# Altium integrated library MCU.IntLib: 10 symbols
Pins are listed as number, name and electrical type; pins without a type are passive.

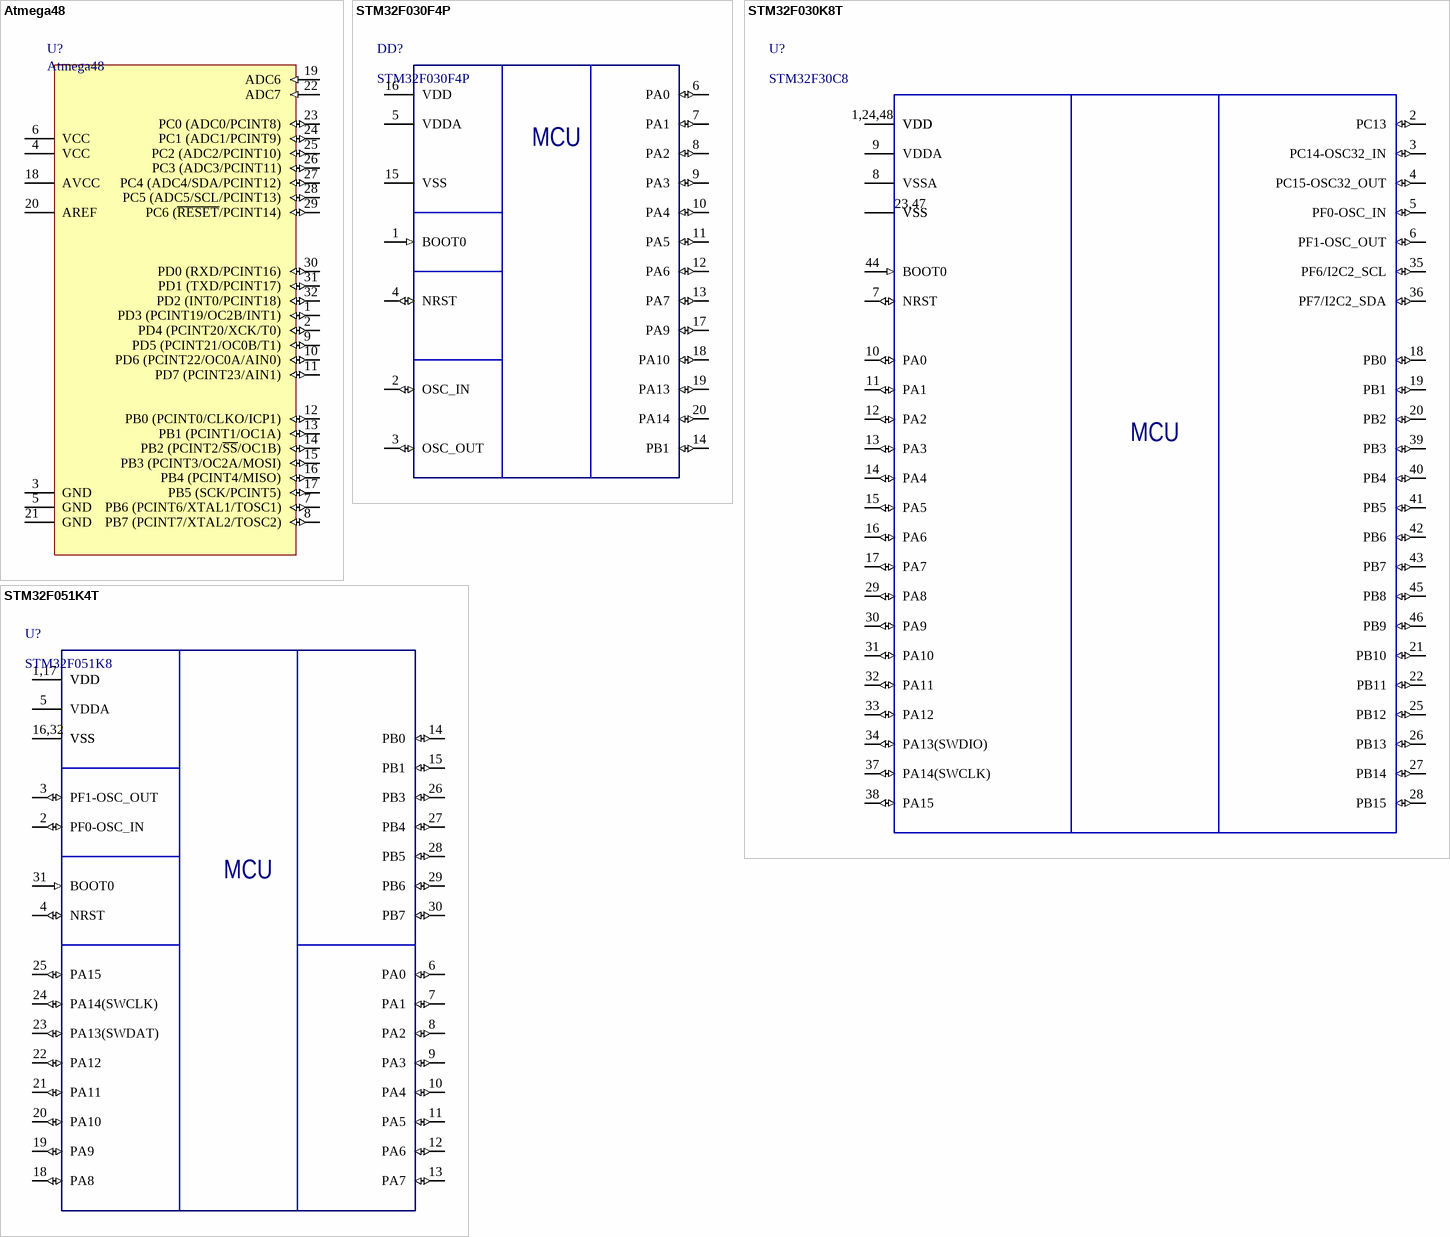
[diagram p0: symbols Atmega48 to STM32F051K4T]

## Atmega48
designator U?
ComponentDescription: Atmega48
footprint TQFP80P900X900X120-32N (TQFP, 32-Leads, Body 7,00x7,00mm, Pitch 0,80mm, IPC Medium Density)
pins: 1 PD3 (PCINT19/OC2B/INT1) (io), 2 PD4 (PCINT20/XCK/T0) (io), 3 GND (power), 4 VCC (power), 5 GND (power), 6 VCC (power), 7 PB6 (PCINT6/XTAL1/TOSC1) (io), 8 PB7 (PCINT7/XTAL2/TOSC2) (io), 9 PD5 (PCINT21/OC0B/T1) (io), 10 PD6 (PCINT22/OC0A/AIN0) (io), 11 PD7 (PCINT23/AIN1) (io), 12 PB0 (PCINT0/CLKO/ICP1) (io), 13 PB1 (PCINT1/OC1A) (io), 14 PB2 (PCINT2/~{SS}/OC1B) (io), 15 PB3 (PCINT3/OC2A/MOSI) (io), 16 PB4 (PCINT4/MISO) (io), 17 PB5 (SCK/PCINT5) (io), 18 AVCC (power), 19 ADC6 (in), 20 AREF, 21 GND (power), 22 ADC7 (in), 23 PC0 (ADC0/PCINT8) (io), 24 PC1 (ADC1/PCINT9) (io), 25 PC2 (ADC2/PCINT10) (io), 26 PC3 (ADC3/PCINT11) (io), 27 PC4 (ADC4/SDA/PCINT12) (io), 28 PC5 (ADC5/SCL/PCINT13) (io), 29 PC6 (~{RESET}/PCINT14) (io), 30 PD0 (RXD/PCINT16) (io), 31 PD1 (TXD/PCINT17) (io), 32 PD2 (INT0/PCINT18) (io)

## STM32F030F4P
designator DD?
ComponentDescription: STM32F030F4P
footprint SOP65P600X265-20N (SOP, 20-Leads, Body 6,50x4,40mm, Pitch 0,65mm, IPC Medium Density)
pins: 1 BOOT0 (in) "Boot memory selection", 2 OSC_IN (io) "PF0-OSC_IN(PF0)/OSC_IN", 3 OSC_OUT (io) "PF1-OSC_OUT(PF1)/OSC_OUT", 4 NRST (io) "Device reset input / internal reset output (active low)", 5 VDDA (power) "Analog power supply", 6 PA0 (io) "PA0/USART1_CTS/ADC_IN0,RTC_TAMP2,WKUP1", 7 PA1 (io) "PA1/USART1_RTS,EVENTOUT/ADC_IN1", 8 PA2 (io) "PA2/USART1_TX/ADC_IN2", 9 PA3 (io) "PA3/USART1_RX/ADC_IN3", 10 PA4 (io) "PA4/SPI1_NSS,USART1_CK,TIM14_CH1/ADC_IN4", 11 PA5 (io) "PA5/SPI1_SCK/ADC_IN5", 12 PA6 (io) "PA6/SPI1_MISO,TIM3_CH1,TIM1_BKIN,TIM16_CH1,EVENTOUT/ADC_IN6", 13 PA7 (io) "PA7/SPI1_MOSI,TIM3_CH2,TIM14_CH1,TIM1_CH1N,TIM17_CH1,EVENTOUT/ADC_IN7", 14 PB1 (io) "PB1/TIM3_CH4,TIM14_CH1,TIM1_CH3N/ADC_IN9", 15 VSS (power) "Ground", 16 VDD (power) "Digital power supply", 17 PA9 (io) "PA9/USART1_TX,TIM1_CH2,I2C1_SCL", 18 PA10 (io) "PA10/USART1_RX,TIM1_CH3,TIM17_BKIN,I2C1_SDA", 19 PA13 (io) "PA13(SWDIO)/IR_OUT,SWDIO", 20 PA14 (io) "PA14(SWCLK)/USART1_TX,SWCLK"
text: MCU

## STM32F030K8T
designator U?, comment STM32F30C8
ComponentDescription: STM32F30C8
footprint SQFP50P900X900X180-48N (SQFP, 48-Leads, Body 7,00x7,00mm, Pitch 0,50mm, IPC Medium Density)
pins: 1 VDD (power) "Digital power supply", 2 PC13 (io) "PC13/RTC_TAMP1,RTC_TS,RTC_OUT,WKUP2", 3 PC14-OSC32_IN (io) "PC14-OSC32_IN(PC14)/OSC32_IN", 4 PC15-OSC32_OUT (io) "PC15-OSC32_OUT(PC15)/OSC32_OUT", 5 PF0-OSC_IN (io) "PF0-OSC_IN(PF0)/OSC_IN", 6 PF1-OSC_OUT (io) "PF1-OSC_OUT(PF1)/OSC_OUT", 7 NRST (io) "Device reset input / internal reset output (active low)", 8 VSSA (power) "Analog ground", 9 VDDA (power) "Analog power supply", 10 PA0 (io) "PA0/USART2_CTS/ADC_IN0,RTC_TAMP2,WKUP1", 11 PA1 (io) "PA1/USART2_RTS,EVENTOUT/ADC_IN1", 12 PA2 (io) "PA2/USART2_TX,TIM15_CH1/ADC_IN2", 13 PA3 (io) "PA3/USART2_RX,TIM15_CH2/ADC_IN3", 14 PA4 (io) "PA4/SPI1_NSS/USART2_CK,TIM14_CH1/ADC_IN4", 15 PA5 (io) "PA5/SPI1_SCK/ADC_IN5", 16 PA6 (io) "PA6/SPI1_MISO,TIM3_CH1,TIM1_BKIN,TIM16_CH1,EVENTOUT/ADC_IN6", 17 PA7 (io) "PA7/SPI1_MOSI,TIM3_CH2,TIM14_CH1,TIM1_CH1N,TIM17_CH1,EVENTOUT/ADC_IN7", 18 PB0 (io) "PB0/TIM3_CH3,TIM1_CH2N,EVENTOUT/ADC_IN8", 19 PB1 (io) "PB1/TIM3_CH4,TIM14_CH1,TIM1_CH3N/ADC_IN9", 20 PB2 (io), 21 PB10 (io) "PB10/I2C2_SCL", 22 PB11 (io) "PB11/I2C2_SDA,EVENTOUT", 23 VSS (power) "Ground", 24 VDD (power) "Digital power supply", 25 PB12 (io) "PB12/SPI2_NSS,TIM1_BKIN,EVENTOUT", 26 PB13 (io) "PB13/SPI2_SCK,TIM1_CH1N", 27 PB14 (io) "PB14/SPI2_MISO,TIM1_CH2N,TIM15_CH1", 28 PB15 (io) "PB15/SPI2_MOSI,TIM1_CH3N,TIM15_CH1N,TIM15_CH2/RTC_REFIN", 29 PA8 (io) "PA8/USART1_CK,TIM1_CH1,EVENTOUT,MCO", 30 PA9 (io) "PA9/USART1_TX,TIM1_CH2,TIM15_BKIN", 31 PA10 (io) "PA10/USART1_RX,TIM1_CH3,TIM17_BKIN", 32 PA11 (io) "PA11/USART1_CTS,TIM1_CH4,EVENTOUT", 33 PA12 (io) "PA12/USART1_RTS,TIM1_ETR,EVENTOUT", 34 PA13(SWDIO) (io) "PA13(SWDIO)/IR_OUT,SWDIO", 35 PF6/I2C2_SCL (io), 36 PF7/I2C2_SDA (io), 37 PA14(SWCLK) (io) "PA14(SWCLK)/USART2_TX,SWCLK", 38 PA15 (io) "PA15/SPI1_NSS,USART2_RX,EVENTOUT", 39 PB3 (io) "PB3/SPI1_SCK,EVENTOUT", 40 PB4 (io) "PB4/SPI1_MISO,TIM3_CH1,EVENTOUT", 41 PB5 (io) "PB5/SPI1_MOSI,I2C1_SMBA,TIM16_BKIN,TIM3_CH2", 42 PB6 (io) "PB6/I2C1_SCL,USART1_TX,TIM16_CH1N", 43 PB7 (io) "PB7/I2C1_SDA,USART1_RX,TIM17_CH1N", 44 BOOT0 (in) "Boot memory selection", 45 PB8 (io) "PB8/I2C1_SCL,TIM16_CH1", 46 PB9 (io) "PB9/I2C1_SDA,IR_OUT,TIM17_CH1,EVENTOUT", 47 VSS (power) "Ground", 48 VDD (power) "Digital power supply"
text: 1,24,48; 23,47; MCU

## STM32F051K4T
designator U?, comment STM32F051K8
ComponentDescription: STM32F051K8
footprint LQFP32 (LQFP, 32-Leads, Body 7,00x7,00mm, Pitch 0,80mm, IPC Medium Density)
pins: 1 VDD (power) "Digital power supply", 2 PF0-OSC_IN (io) "PF0-OSC_IN(PF0)/OSC_IN", 3 PF1-OSC_OUT (io) "PF1-OSC_OUT(PF1)/OSC_OUT", 4 NRST (io) "Device reset input / internal reset output (active low)", 5 VDDA (power) "Analog power supply", 6 PA0 (io) "PA0/USART2_CTS,TIM2_CH1_ETR,COMP1_OUT,TSC_G1_IO1/ADC_IN0,COMP1_INM6,RTC_TAMP2,WKUP1", 7 PA1 (io) "PA1/USART2_RTS,TIM2_CH2,TSC_G1_IO2,EVENTOUT/ADC_IN1,COMP1_INP", 8 PA2 (io) "PA2/USART2_TX,TIM2_CH3,TIM15_CH1,COMP2_OUT,TSC_G1_IO3/ADC_IN2,COMP2_INM6", 9 PA3 (io) "PA3/USART2_RX,TIM2_CH4,TIM15_CH2,TSC_G1_IO4/ADC_IN3,COMP2_INP", 10 PA4 (io) "PA4/SPI1_NSS/I2S1_WS,USART2_CK,TIM14_CH1,TSC_G2_IO1/ADC_IN4,COMP1_INM4,COMP2_INM4,DAC1_OUT", 11 PA5 (io) "PA5/SPI1_SCK/I2S1_CK,CEC,TIM2_CH1_ETR,TSC_G2_IO2/ADC_IN5,COMP1_INM5,COMP2_INM5", 12 PA6 (io) "PA6/SPI1_MISO/I2S1_MCK,TIM3_CH1,TIM1_BKIN,TIM16_CH1,COMP1_OUT,TSC_G2_IO3,EVENTOUT/ADC_IN6", 13 PA7 (io) "PA7/SPI1_MOSI/I2S1_SD,TIM3_CH2,TIM14_CH1,TIM1_CH1N,TIM17_CH1,COMP2_OUT,TSC_G2_IO4,EVENTOUT/ADC_IN7", 14 PB0 (io) "PB0/TIM3_CH3,TIM1_CH2N,TSC_G3_IO2,EVENTOUT/ADC_IN8", 15 PB1 (io) "PB1/TIM3_CH4,TIM14_CH1,TIM1_CH3N,TSC_G3_IO3/ADC_IN9", 16 VSS (power) "Ground", 17 VDD (power) "Digital power supply", 18 PA8 (io) "PA8/USART1_CK,TIM1_CH1,EVENTOUT,MCO", 19 PA9 (io) "PA9/USART1_TX,TIM1_CH2,TIM15_BKIN,TSC_G4_IO1", 20 PA10 (io) "PA10/USART1_RX,TIM1_CH3,TIM17_BKIN,TSC_G4_IO2", 21 PA11 (io) "PA11/USART1_CTS,TIM1_CH4,COMP1_OUT,TSC_G4_IO3,EVENTOUT", 22 PA12 (io) "PA12/USART1_RTS,TIM1_ETR,COMP2_OUT,TSC_G4_IO4,EVENTOUT", 23 PA13(SWDAT) (io) "PA13(SWDAT)/IR_OUT,SWDAT", 24 PA14(SWCLK) (io) "PA14(SWCLK)/USART2_TX,SWCLK", 25 PA15 (io) "PA15/SPI1_NSS/I2S1_WS,USART2_RX,TIM2_CH1_ETR,EVENTOUT", 26 PB3 (io) "PB3/SPI1_SCK/I2S1_CK,TIM2_CH2,TSC_G5_IO1,EVENTOUT", 27 PB4 (io) "PB4/SPI1_MISO/I2S1_MCK,TIM3_CH1,TSC_G5_IO2,EVENTOUT", 28 PB5 (io) "PB5/SPI1_MOSI,I2S1_SD,I2C1_SMBA,TIM16_BKIN,TIM3_CH2", 29 PB6 (io) "PB6/I2C1_SCL,USART1_TX,TIM16_CH1N,TSC_G5_IO3", 30 PB7 (io) "PB7/I2C1_SDA,USART1_RX,TIM17_CH1N,TSC_G5_IO4", 31 BOOT0 (in) "Boot memory selection", 32 VSS (power) "Ground"
text: 1,17; 16,32; MCU

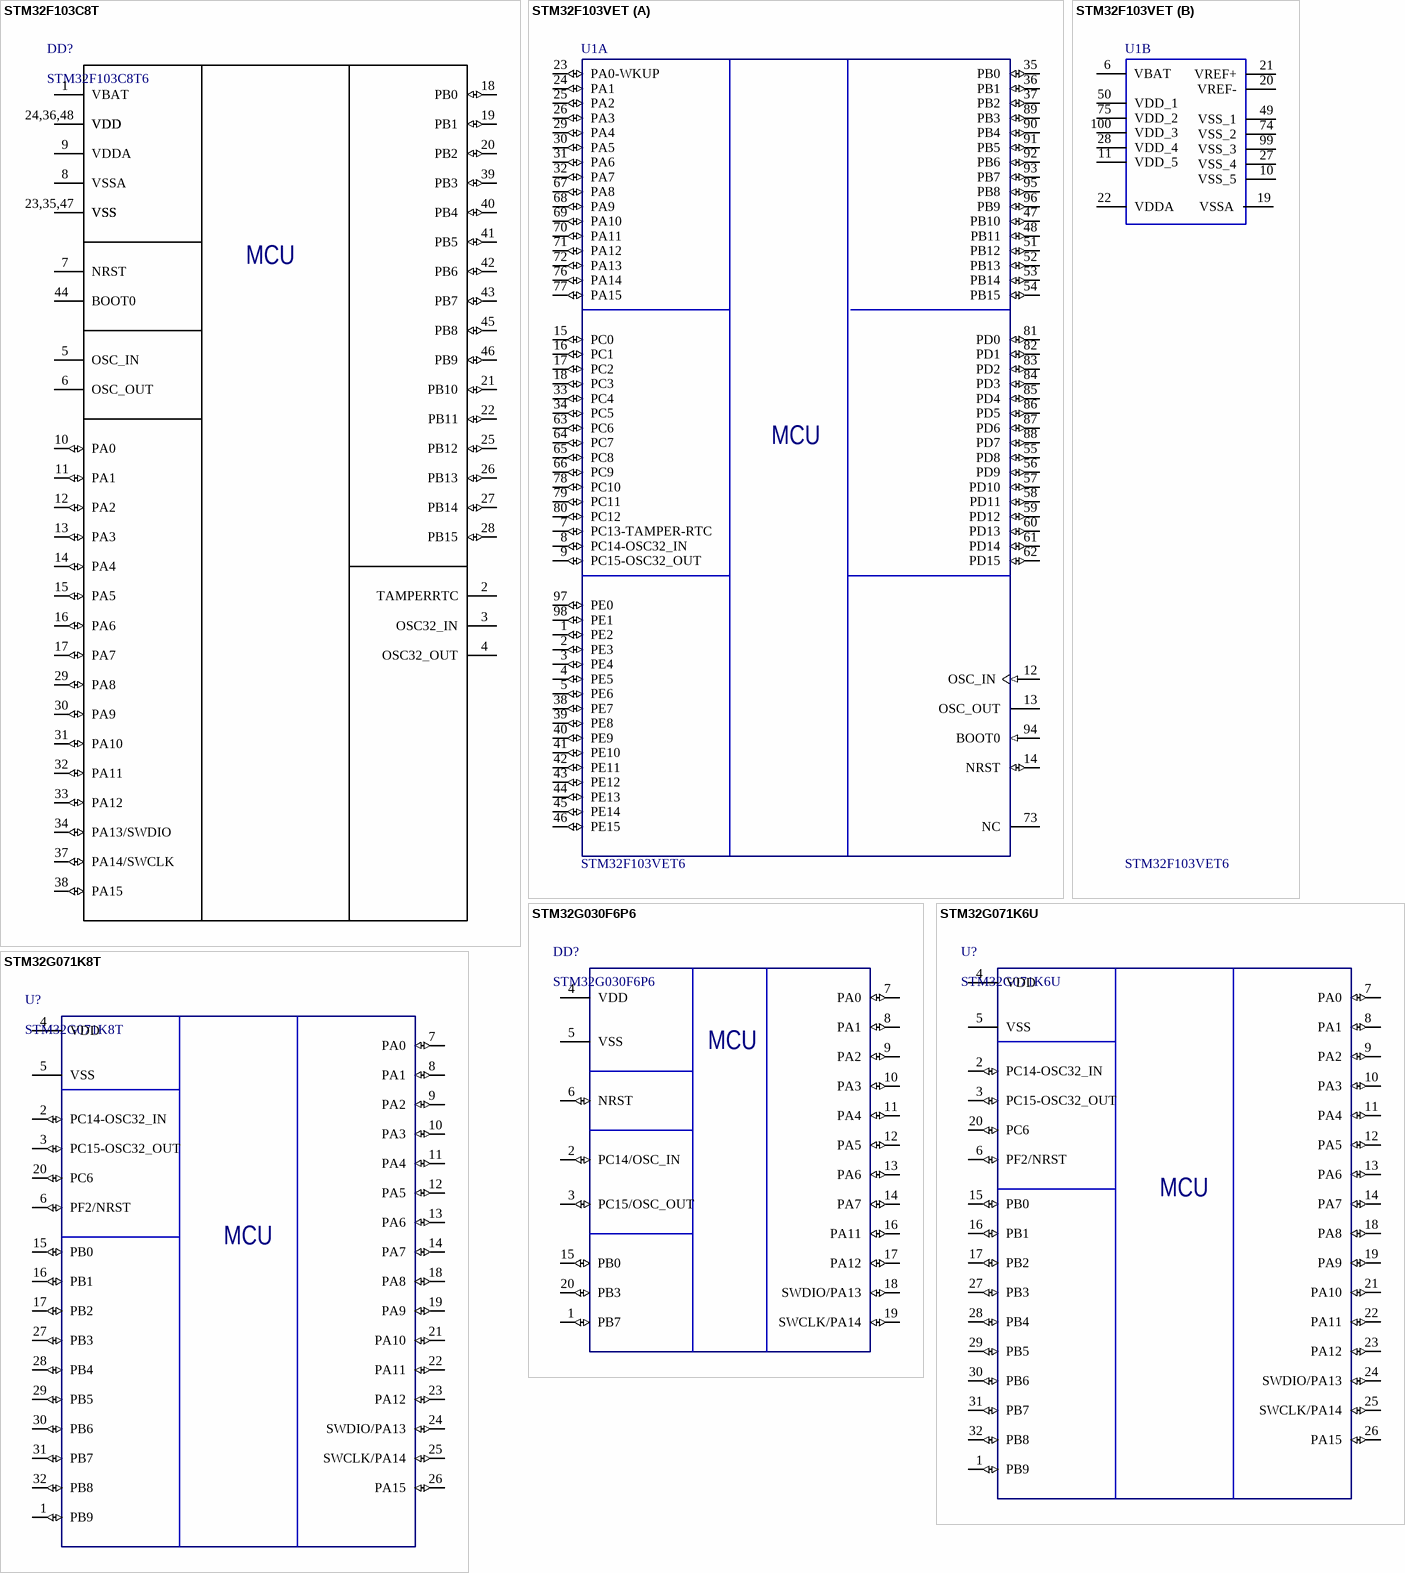
[diagram p1: symbols STM32F103C8T to STM32G071K8T]

## STM32F103C8T
designator DD?, comment STM32F103C8T6
footprint SQFP50P900X900X180-48N (SQFP, 48-Leads, Body 7,00x7,00mm, Pitch 0,50mm, IPC Medium Density)
pins: 1 VBAT, 2 TAMPERRTC, 3 OSC32_IN, 4 OSC32_OUT, 5 OSC_IN, 6 OSC_OUT, 7 NRST, 8 VSSA, 9 VDDA, 10 PA0 (io), 11 PA1 (io), 12 PA2 (io), 13 PA3 (io), 14 PA4 (io), 15 PA5 (io), 16 PA6 (io), 17 PA7 (io), 18 PB0 (io), 19 PB1 (io), 20 PB2 (io), 21 PB10 (io), 22 PB11 (io), 23 VSS (power), 24 VDD, 25 PB12 (io), 26 PB13 (io), 27 PB14 (io), 28 PB15 (io), 29 PA8 (io), 30 PA9 (io), 31 PA10 (io), 32 PA11 (io), 33 PA12 (io), 34 PA13/SWDIO (io), 35 VSS (power), 36 VDD, 37 PA14/SWCLK (io), 38 PA15 (io), 39 PB3 (io), 40 PB4 (io), 41 PB5 (io), 42 PB6 (io), 43 PB7 (io), 44 BOOT0, 45 PB8 (io), 46 PB9 (io), 47 VSS (power), 48 VDD
text: 24,36,48; 23,35,47; MCU

## STM32F103VET
designator U1, comment STM32F103VET6
ARM Cortex-M3 32-bit MCU, 512 KB Flash, 64 KB Internal RAM, 80 I/Os, 100-pin LQFP, -40 to 85 degC, Tray; ComponentDescription: STM32F103VET6
footprint LQFP100
part A pins: 1 PE2 (io) "PE2/TRACECK/FSMC_A23", 2 PE3 (io) "PE3/TRACED0/FSMC_A19", 3 PE4 (io) "PE4/TRACED1/FSMC_A20", 4 PE5 (io) "PE5/TRACED2/FSMC_A21", 5 PE6 (io) "PE6/TRACED3/FSMC_A22", 7 PC13-TAMPER-RTC (io) "PC13-TAMPER-RTC/PC13/TAMPER-RTC", 8 PC14-OSC32_IN (io) "PC14-OSC32_IN/PC14/OSC32_IN", 9 PC15-OSC32_OUT (io) "PC15-OSC32_OUT/PC15/OSC32_OUT", 12 OSC_IN (in), 13 OSC_OUT, 14 NRST (io), 15 PC0 (io) "PC0/ADC123_IN10", 16 PC1 (io) "PC1/ADC123_IN11", 17 PC2 (io) "PC2/ADC123_IN12", 18 PC3 (io) "PC3/ADC123_IN13", 23 PA0-WKUP (io) "PA0-WKUP/PA0/WKUP/USART2_CTS/ADC123_IN0/TIM2_CH1_ETR/TIM5_CH1/TIM8_ETR", 24 PA1 (io) "PA1/USART2_RTS/ADC123_IN1/TIM5_CH2/TIM2_CH2", 25 PA2 (io) "PA2/USART2_TX/TIM5_CH3/ADC123_IN2/TIM2_CH3", 26 PA3 (io) "PA3/USART2_RX/TIM5_CH4/ADC123_IN3/TIM2_CH4", 29 PA4 (io) "PA4/SPI1_NSS/USART2_CK/DAC_OUT1/ADC12_IN4", 30 PA5 (io) "PA5/SPI1_SCK/DAC_OUT2/ADC12_IN5", 31 PA6 (io) "PA6/SPI1_MISO/TIM8_BKIN/ADC12_IN6/TIM3_CH1/TIM1_BKIN", 32 PA7 (io) "PA7/SPI1_MOSI/TIM8_CH1N/ADC12_IN7/TIM3_CH2/TIM1_CH1N", 33 PC4 (io) "PC4/ADC12_IN14", 34 PC5 (io) "PC5/ADC12_IN15", 35 PB0 (io) "PB0/ADC12_IN8/TIM3_CH3/TIM8_CH2N/TIM1_CH2N", 36 PB1 (io) "PB1/ADC12_IN9/TIM3_CH4/TIM8_CH3N/TIM1_CH3N", 37 PB2 (io) "PB2/BOOT1", 38 PE7 (io) "PE7/FSMC_D4/TIM1_ETR", 39 PE8 (io) "PE8/FSMC_D5/TIM1_CH1N", 40 PE9 (io) "PE9/FSMC_D6/TIM1_CH1", 41 PE10 (io) "PE10/FSMC_D7/TIM1_CH2N", 42 PE11 (io) "PE11/FSMC_D8/TIM1_CH2", 43 PE12 (io) "PE12/FSMC_D9/TIM1_CH3N", 44 PE13 (io) "PE13/FSMC_D10/TIM1_CH3", 45 PE14 (io) "PE14/FSMC_D11/TIM1_CH4", 46 PE15 (io) "PE15/FSMC_D12/TIM1_BKIN", 47 PB10 (io) "PB10/I2C2_SCL/USART3_TX/TIM2_CH3", 48 PB11 (io) "PB11/I2C2_SDA/USART3_RX/TIM2_CH4", 51 PB12 (io) "PB12/SPI2_NSS/I2S2_WS/I2C2_SMBA/USART3_CK/TIM1_BKIN", 52 PB13 (io) "PB13/SPI2_SCK/I2S2_CK/USART3_CTS/TIM1_CH1N", 53 PB14 (io) "PB14/SPI2_MISO/TIM1_CH2N/USART3_RTS", 54 PB15 (io) "PB15/SPI2_MOSI/I2S2_SD/TIM1_CH3N", 55 PD8 (io) "PD8/FSMC_D13/USART3_TX", 56 PD9 (io) "PD9/FSMC_D14/USART3_RX", 57 PD10 (io) "PD10/FSMC_D15/USART3_CK", 58 PD11 (io) "PD11/FSMC_A16/USART3_CTS", 59 PD12 (io) "PD12/FSMC_A17/TIM4_CH1/USART3_RTS", 60 PD13 (io) "PD13/FSMC_A18/TIM4_CH2", 61 PD14 (io) "PD14/FSMC_D0/TIM4_CH3", 62 PD15 (io) "PD15/FSMC_D1/TIM4_CH4", 63 PC6 (io) "PC6/I2S2_MCK/TIM8_CH1/SDIO_D6/TIM3_CH1", 64 PC7 (io) "PC7/I2S3_MCK/TIM8_CH2/SDIO_D7/TIM3_CH2", 65 PC8 (io) "PC8/TIM8_CH3/SDIO_D0/TIM3_CH3", 66 PC9 (io) "PC9/TIM8_CH4/SDIO_D1/TIM3_CH4", 67 PA8 (io) "PA8/USART1_CK/TIM1_CH1/MCO", 68 PA9 (io) "PA9/USART1_TX/TIM1_CH2", 69 PA10 (io) "PA10/USART1_RX/TIM1_CH3", 70 PA11 (io) "PA11/USART1_CTS/USBDM/CAN_RX/TIM1_CH4", 71 PA12 (io) "PA12/USART1_RTS/USBDP/CAN_TX/TIM1_ETR", 72 PA13 (io) "PA13/JTMS-SWDIO", 73 NC, 76 PA14 (io) "PA14/JTCK-SWCLK", 77 PA15 (io) "PA15/JTDI/SPI3_NSS/I2S3_WS/TIM2_CH1_ETR/SPI1_NSS", 78 PC10 (io) "PC10/UART4_TX/SDIO_D2/USART3_TX", 79 PC11 (io) "PC11/UART4_RX/SDIO_D3/USART3_RX", 80 PC12 (io) "PC12/UART5_TX/SDIO_CK/USART3_CK", 81 PD0 (io) "PD0/OSC_IN/FSMC_D2/CAN_RX", 82 PD1 (io) "PD1/OSC_OUT/FSMC_D3/CAN_TX", 83 PD2 (io) "PD2/TIM3_ETR/UART5_RX/SDIO_CMD", 84 PD3 (io) "PD3/FSMC_CLK/USART2_CTS", 85 PD4 (io) "PD4/FSMC_NOE/USART2_RTS", 86 PD5 (io) "PD5/FSMC_NWE/USART2_TX", 87 PD6 (io) "PD6/FSMC_NWAIT/USART2_RX", 88 PD7 (io) "PD7/FSMC_NE1/FSMC_NCE2/USART2_CK", 89 PB3 (io) "PB3/JTDO/SPI3_SCK/I2S3_CK/TRACESWO/TIM2_CH2/SPI1_SCK", 90 PB4 (io) "PB4/NJTRST/SPI3_MISO/TIM3_CH1/SPI1_MISO", 91 PB5 (io) "PB5/I2C1_SMBA/SPI3_MOSI/I2S3_SD/TIM3_CH2/SPI1_MOSI", 92 PB6 (io) "PB6/I2C1_SCL/TIM4_CH1/USART1_TX", 93 PB7 (io) "PB7/I2C1_SDA/FSMC_NADV/TIM4_CH2/USART1_RX", 94 BOOT0 (in), 95 PB8 (io) "PB8/TIM4_CH3/SDIO_D4/I2C1_SCL/CAN_RX", 96 PB9 (io) "PB9/TIM4_CH4/SDIO_D5/I2C1_SDA/CAN_TX", 97 PE0 (io) "PE0/TIM4_ETR/FSMC_NBL0", 98 PE1 (io) "PE1/FSMC_NBL1"
part B pins: 6 VBAT, 10 VSS_5 (power), 11 VDD_5 (power), 19 VSSA (power), 20 VREF- (power), 21 VREF+ (power), 22 VDDA (power), 27 VSS_4 (power), 28 VDD_4 (power), 49 VSS_1 (power), 50 VDD_1 (power), 74 VSS_2 (power), 75 VDD_2 (power), 99 VSS_3 (power), 100 VDD_3 (power)
part A text: MCU

## STM32G030F6P6
designator DD?
ComponentDescription: STM32G030F6P6
footprint SOP65P600X265-20N (SOP, 20-Leads, Body 6,50x4,40mm, Pitch 0,65mm, IPC Medium Density)
pins: 1 PB7 (io), 2 PC14/OSC_IN (io), 3 PC15/OSC_OUT (io), 4 VDD (power) "Digital power supply", 5 VSS (power) "Ground", 6 NRST (io) "Device reset input / internal reset output (active low)", 7 PA0 (io), 8 PA1 (io), 9 PA2 (io), 10 PA3 (io), 11 PA4 (io), 12 PA5 (io), 13 PA6 (io), 14 PA7 (io), 15 PB0 (io), 16 PA11 (io), 17 PA12 (io), 18 SWDIO/PA13 (io), 19 SWCLK/PA14 (io), 20 PB3 (io)
text: MCU

## STM32G071K6U
designator U?
ComponentDescription: STM32G071K6U
footprint PQFN50P500X500X60_HS-33N (PQFN, 32-Leads, Body 5,00x5,00mm, Pitch 0,50mm, Thermal Pad 3,50x3,50mm, IPC Medium Density)
pins: 1 PB9 (io) "PB7/I2C1_SDA,USART1_RX,TIM17_CH1N,TSC_G5_IO4", 2 PС14-OSC32_IN (io) "PF0-OSC_IN(PF0)/OSC_IN", 3 PС15-OSC32_OUT (io) "PF1-OSC_OUT(PF1)/OSC_OUT", 4 VDD (power) "Digital power supply", 5 VSS (power) "Analog power supply", 6 PF2/NRST (io) "Device reset input / internal reset output (active low)", 7 PA0 (io) "PA0/USART2_CTS,TIM2_CH1_ETR,COMP1_OUT,TSC_G1_IO1/ADC_IN0,COMP1_INM6,RTC_TAMP2,WKUP1", 8 PA1 (io) "PA1/USART2_RTS,TIM2_CH2,TSC_G1_IO2,EVENTOUT/ADC_IN1,COMP1_INP", 9 PA2 (io) "PA2/USART2_TX,TIM2_CH3,TIM15_CH1,COMP2_OUT,TSC_G1_IO3/ADC_IN2,COMP2_INM6", 10 PA3 (io) "PA3/USART2_RX,TIM2_CH4,TIM15_CH2,TSC_G1_IO4/ADC_IN3,COMP2_INP", 11 PA4 (io) "PA4/SPI1_NSS/I2S1_WS,USART2_CK,TIM14_CH1,TSC_G2_IO1/ADC_IN4,COMP1_INM4,COMP2_INM4,DAC1_OUT", 12 PA5 (io) "PA5/SPI1_SCK/I2S1_CK,CEC,TIM2_CH1_ETR,TSC_G2_IO2/ADC_IN5,COMP1_INM5,COMP2_INM5", 13 PA6 (io) "PA6/SPI1_MISO/I2S1_MCK,TIM3_CH1,TIM1_BKIN,TIM16_CH1,COMP1_OUT,TSC_G2_IO3,EVENTOUT/ADC_IN6", 14 PA7 (io) "PA7/SPI1_MOSI/I2S1_SD,TIM3_CH2,TIM14_CH1,TIM1_CH1N,TIM17_CH1,COMP2_OUT,TSC_G2_IO4,EVENTOUT/ADC_IN7", 15 PB0 (io) "PB0/TIM3_CH3,TIM1_CH2N,TSC_G3_IO2,EVENTOUT/ADC_IN8", 16 PB1 (io) "PB1/TIM3_CH4,TIM14_CH1,TIM1_CH3N,TSC_G3_IO3/ADC_IN9", 17 PB2 (io) "PB1/TIM3_CH4,TIM14_CH1,TIM1_CH3N,TSC_G3_IO3/ADC_IN9", 18 PA8 (io) "PA7/SPI1_MOSI/I2S1_SD,TIM3_CH2,TIM14_CH1,TIM1_CH1N,TIM17_CH1,COMP2_OUT,TSC_G2_IO4,EVENTOUT/ADC_IN7", 19 PA9 (io) "PA7/SPI1_MOSI/I2S1_SD,TIM3_CH2,TIM14_CH1,TIM1_CH1N,TIM17_CH1,COMP2_OUT,TSC_G2_IO4,EVENTOUT/ADC_IN7", 20 PС6 (io), 21 PA10 (io) "PA6/SPI1_MISO/I2S1_MCK,TIM3_CH1,TIM1_BKIN,TIM16_CH1,COMP1_OUT,TSC_G2_IO3,EVENTOUT/ADC_IN6", 22 PA11 (io) "PA7/SPI1_MOSI/I2S1_SD,TIM3_CH2,TIM14_CH1,TIM1_CH1N,TIM17_CH1,COMP2_OUT,TSC_G2_IO4,EVENTOUT/ADC_IN7", 23 PA12 (io) "PA7/SPI1_MOSI/I2S1_SD,TIM3_CH2,TIM14_CH1,TIM1_CH1N,TIM17_CH1,COMP2_OUT,TSC_G2_IO4,EVENTOUT/ADC_IN7", 24 SWDIO/PA13 (io) "PA7/SPI1_MOSI/I2S1_SD,TIM3_CH2,TIM14_CH1,TIM1_CH1N,TIM17_CH1,COMP2_OUT,TSC_G2_IO4,EVENTOUT/ADC_IN7", 25 SWCLK/PA14 (io) "PA6/SPI1_MISO/I2S1_MCK,TIM3_CH1,TIM1_BKIN,TIM16_CH1,COMP1_OUT,TSC_G2_IO3,EVENTOUT/ADC_IN6", 26 PA15 (io) "PA7/SPI1_MOSI/I2S1_SD,TIM3_CH2,TIM14_CH1,TIM1_CH1N,TIM17_CH1,COMP2_OUT,TSC_G2_IO4,EVENTOUT/ADC_IN7", 27 PB3 (io) "PB3/SPI1_SCK/I2S1_CK,TIM2_CH2,TSC_G5_IO1,EVENTOUT", 28 PB4 (io) "PB4/SPI1_MISO/I2S1_MCK,TIM3_CH1,TSC_G5_IO2,EVENTOUT", 29 PB5 (io) "PB5/SPI1_MOSI,I2S1_SD,I2C1_SMBA,TIM16_BKIN,TIM3_CH2", 30 PB6 (io) "PB6/I2C1_SCL,USART1_TX,TIM16_CH1N,TSC_G5_IO3", 31 PB7 (io) "PB7/I2C1_SDA,USART1_RX,TIM17_CH1N,TSC_G5_IO4", 32 PB8 (io) "PB7/I2C1_SDA,USART1_RX,TIM17_CH1N,TSC_G5_IO4"
text: MCU

## STM32G071K8T
designator U?
ComponentDescription: STM32G071K8T
footprint LQFP32 (LQFP, 32-Leads, Body 7,00x7,00mm, Pitch 0,80mm, IPC Medium Density)
pins: 1 PB9 (io) "PB7/I2C1_SDA,USART1_RX,TIM17_CH1N,TSC_G5_IO4", 2 PС14-OSC32_IN (io) "PF0-OSC_IN(PF0)/OSC_IN", 3 PС15-OSC32_OUT (io) "PF1-OSC_OUT(PF1)/OSC_OUT", 4 VDD (power) "Digital power supply", 5 VSS (power) "Analog power supply", 6 PF2/NRST (io) "Device reset input / internal reset output (active low)", 7 PA0 (io) "PA0/USART2_CTS,TIM2_CH1_ETR,COMP1_OUT,TSC_G1_IO1/ADC_IN0,COMP1_INM6,RTC_TAMP2,WKUP1", 8 PA1 (io) "PA1/USART2_RTS,TIM2_CH2,TSC_G1_IO2,EVENTOUT/ADC_IN1,COMP1_INP", 9 PA2 (io) "PA2/USART2_TX,TIM2_CH3,TIM15_CH1,COMP2_OUT,TSC_G1_IO3/ADC_IN2,COMP2_INM6", 10 PA3 (io) "PA3/USART2_RX,TIM2_CH4,TIM15_CH2,TSC_G1_IO4/ADC_IN3,COMP2_INP", 11 PA4 (io) "PA4/SPI1_NSS/I2S1_WS,USART2_CK,TIM14_CH1,TSC_G2_IO1/ADC_IN4,COMP1_INM4,COMP2_INM4,DAC1_OUT", 12 PA5 (io) "PA5/SPI1_SCK/I2S1_CK,CEC,TIM2_CH1_ETR,TSC_G2_IO2/ADC_IN5,COMP1_INM5,COMP2_INM5", 13 PA6 (io) "PA6/SPI1_MISO/I2S1_MCK,TIM3_CH1,TIM1_BKIN,TIM16_CH1,COMP1_OUT,TSC_G2_IO3,EVENTOUT/ADC_IN6", 14 PA7 (io) "PA7/SPI1_MOSI/I2S1_SD,TIM3_CH2,TIM14_CH1,TIM1_CH1N,TIM17_CH1,COMP2_OUT,TSC_G2_IO4,EVENTOUT/ADC_IN7", 15 PB0 (io) "PB0/TIM3_CH3,TIM1_CH2N,TSC_G3_IO2,EVENTOUT/ADC_IN8", 16 PB1 (io) "PB1/TIM3_CH4,TIM14_CH1,TIM1_CH3N,TSC_G3_IO3/ADC_IN9", 17 PB2 (io) "PB1/TIM3_CH4,TIM14_CH1,TIM1_CH3N,TSC_G3_IO3/ADC_IN9", 18 PA8 (io) "PA7/SPI1_MOSI/I2S1_SD,TIM3_CH2,TIM14_CH1,TIM1_CH1N,TIM17_CH1,COMP2_OUT,TSC_G2_IO4,EVENTOUT/ADC_IN7", 19 PA9 (io) "PA7/SPI1_MOSI/I2S1_SD,TIM3_CH2,TIM14_CH1,TIM1_CH1N,TIM17_CH1,COMP2_OUT,TSC_G2_IO4,EVENTOUT/ADC_IN7", 20 PС6 (io), 21 PA10 (io) "PA6/SPI1_MISO/I2S1_MCK,TIM3_CH1,TIM1_BKIN,TIM16_CH1,COMP1_OUT,TSC_G2_IO3,EVENTOUT/ADC_IN6", 22 PA11 (io) "PA7/SPI1_MOSI/I2S1_SD,TIM3_CH2,TIM14_CH1,TIM1_CH1N,TIM17_CH1,COMP2_OUT,TSC_G2_IO4,EVENTOUT/ADC_IN7", 23 PA12 (io) "PA7/SPI1_MOSI/I2S1_SD,TIM3_CH2,TIM14_CH1,TIM1_CH1N,TIM17_CH1,COMP2_OUT,TSC_G2_IO4,EVENTOUT/ADC_IN7", 24 SWDIO/PA13 (io) "PA7/SPI1_MOSI/I2S1_SD,TIM3_CH2,TIM14_CH1,TIM1_CH1N,TIM17_CH1,COMP2_OUT,TSC_G2_IO4,EVENTOUT/ADC_IN7", 25 SWCLK/PA14 (io) "PA6/SPI1_MISO/I2S1_MCK,TIM3_CH1,TIM1_BKIN,TIM16_CH1,COMP1_OUT,TSC_G2_IO3,EVENTOUT/ADC_IN6", 26 PA15 (io) "PA7/SPI1_MOSI/I2S1_SD,TIM3_CH2,TIM14_CH1,TIM1_CH1N,TIM17_CH1,COMP2_OUT,TSC_G2_IO4,EVENTOUT/ADC_IN7", 27 PB3 (io) "PB3/SPI1_SCK/I2S1_CK,TIM2_CH2,TSC_G5_IO1,EVENTOUT", 28 PB4 (io) "PB4/SPI1_MISO/I2S1_MCK,TIM3_CH1,TSC_G5_IO2,EVENTOUT", 29 PB5 (io) "PB5/SPI1_MOSI,I2S1_SD,I2C1_SMBA,TIM16_BKIN,TIM3_CH2", 30 PB6 (io) "PB6/I2C1_SCL,USART1_TX,TIM16_CH1N,TSC_G5_IO3", 31 PB7 (io) "PB7/I2C1_SDA,USART1_RX,TIM17_CH1N,TSC_G5_IO4", 32 PB8 (io) "PB7/I2C1_SDA,USART1_RX,TIM17_CH1N,TSC_G5_IO4"
text: MCU

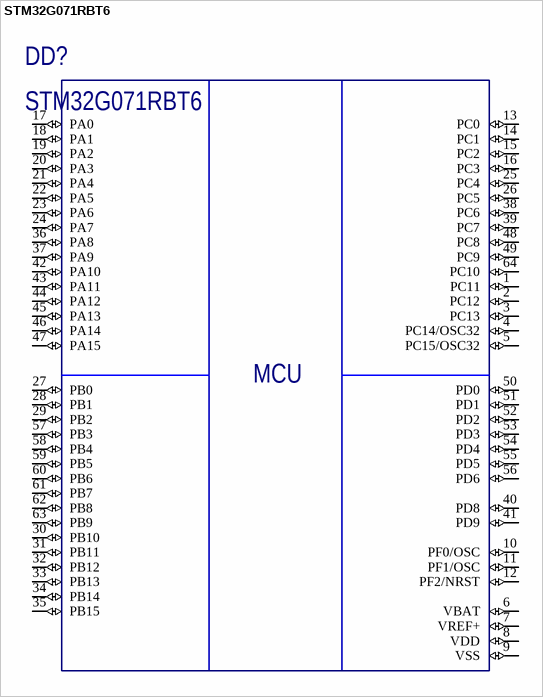
[diagram p2: symbol STM32G071RBT6]

## STM32G071RBT6
designator DD?
STM32G Series 128 KB Flash 36 KB RAM 64 MHz 32-Bit Microcontroller - LQFP-64; Manufacturer: STMicroelectronics; Interface: I2C,SPI,USB,HDMI,IrDA,UART,USART; Peripherals: Brown-out Detect/Reset,POR,PWM,WDT,DMA; Core Architecture: ARM; Frequency: 64MHz; Number of I/Os: 66; Memory Size: 128KB; Oscillator Type: Internal; Supplier 1: Newark; Manufacturer Part Number: STM32G071RBT6; RoHS: No; Stock 1: 960; Pricing 1: 160=1,86000, 320=1,81000, 640=1,78000, 960=1,75000, 1280=1,73000 (USD); Case/Package: LQFP; Min Operating Temperature: -40°C; Max Operating Temperature: 85°C; Memory Type: FLASH; Packaging: Tray; ComponentLink1URL: https://media.digikey.com/pdf/Data%20Sheets/ST%20Microelectronics%20PDFS/STM32G071_Rev1_DS.pdf?src-supplier=Digi-Key; ComponentLink1Description: https://media.digikey.com/pdf/Data%20Sheets/ST%20Microelectronics%20PDFS/STM32G071_Rev1_DS.pdf?src-supplier=Digi-Key; ComponentDescription: STM32G071RBT6; Supplier Part Number 1: 79AH7005; Supplier 2: Digi-Key; Pricing 2: 1=4,10000, 10=3,68000, 25=3,47960, 100=3,01550, 250=2,86084, 500=2,56704, 1000=2,16497, 2500=2,05672, 5000=1,97940 (USD); Supplier Part Number 2: 497-18341-ND
footprint SQFP50P1200X1200X245-64N (SQFP, 64-Leads, Body 10,00x10,00mm, Pitch 0,50mm, IPC Medium Density)
pins: 1 PC11 (io), 2 PC12 (io), 3 PC13 (io), 4 PC14/OSC32 (io), 5 PC15/OSC32 (io), 6 VBAT (io), 7 VREF+ (io), 8 VDD (io), 9 VSS (io), 10 PF0/OSC (io), 11 PF1/OSC (io), 12 PF2/NRST (io), 13 PC0 (io), 14 PC1 (io), 15 PC2 (io), 16 PC3 (io), 17 PA0 (io), 18 PA1 (io), 19 PA2 (io), 20 PA3 (io), 21 PA4 (io), 22 PA5 (io), 23 PA6 (io), 24 PA7 (io), 25 PC4 (io), 26 PC5 (io), 27 PB0 (io), 28 PB1 (io), 29 PB2 (io), 30 PB10 (io), 31 PB11 (io), 32 PB12 (io), 33 PB13 (io), 34 PB14 (io), 35 PB15 (io), 36 PA8 (io), 37 PA9 (io), 38 PC6 (io), 39 PC7 (io), 40 PD8 (io), 41 PD9 (io), 42 PA10 (io), 43 PA11 (io), 44 PA12 (io), 45 PA13 (io), 46 PA14 (io), 47 PA15 (io), 48 PC8 (io), 49 PC9 (io), 50 PD0 (io), 51 PD1 (io), 52 PD2 (io), 53 PD3 (io), 54 PD4 (io), 55 PD5 (io), 56 PD6 (io), 57 PB3 (io), 58 PB4 (io), 59 PB5 (io), 60 PB6 (io), 61 PB7 (io), 62 PB8 (io), 63 PB9 (io), 64 PC10 (io)
text: MCU